# Altium schematic symbol library LM2940.SchLib: 1 symbol
Pins are listed as number, name and electrical type; pins without a type are passive.

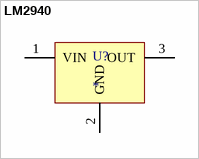
[diagram p0: symbol LM2940]

## LM2940
designator U?
1A Low Dropout Regulator; Manufacturer: National Semiconductor; Part No.: LM2940; Vendor: Digi-Key; Supplier 1: Digi-Key; Supplier Part Number 1: LM2940IMP-5.0CT-ND; Price Est.: $2.15
footprint SOT-223; pin to pad 2>2+4
pins: 1 VIN, 2 GND, 3 OUT